# Altium footprint library DF13A-6P-1.25H(51).PcbLib: 1 footprints
Each footprint in its own frame and in the unit in brackets; x right, y up, seen from the top. Pads: shape width x height; smd on the part's side, far side on the other; paste and mask are expansions set on the pad; w line width, h text height; cw(c..) or ccw(c..) is an arc to the next point about the centre after c.
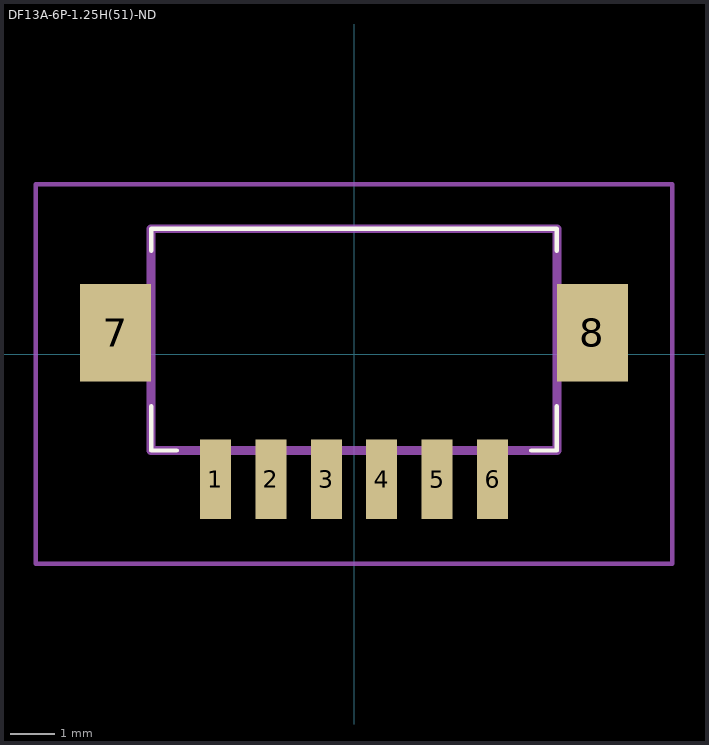
[diagram p0: the footprint, top view; thin cyan lines are the x and y axes]

## DF13A-6P-1.25H(51)-ND [mm]
height 3.6
pads (8):
  rect 0.7x1.8 smd: 1(-3.125,-2.825) 2(-1.875,-2.825) 3(-0.625,-2.825) 4(0.625,-2.825) 5(1.875,-2.825) 6(3.125,-2.825)
  rect 1.6x2.2 smd: 7(-5.375,0.485) 8(5.375,0.485)
Top Overlay:
  lines w0.1: -4.575,-1.175 -4.575,-2.175 -4.5,-2.175 -4,-2.175 ; -4.575,2.325 -4.575,2.825 4.5,2.825 4.575,2.825 4.575,2.325 ; 4,-2.175 4.575,-2.175 4.575,-1.175
Mechanical 13:
  lines w0.2: -4.575,-2.175 -4.575,2.825 4.575,2.825 4.575,-2.175 -4.575,-2.175
Mechanical 15:
  lines w0.1: -7.175,-4.725 -7.175,3.825 7.175,3.825 7.175,-4.725 -7.175,-4.725
3D body "DF13A-6P-1.25H.stp": height 3.58, standoff -0.02, extent -6.054,-3.631 6.096,2.869